# Altium footprint library 3S Battery PCBLib.PcbLib: 10 footprints
Each footprint in its own frame and in the unit in brackets; x right, y up, seen from the top. Pads: shape width x height; smd on the part's side, far side on the other; paste and mask are expansions set on the pad; w line width, h text height; cw(c..) or ccw(c..) is an arc to the next point about the centre after c.
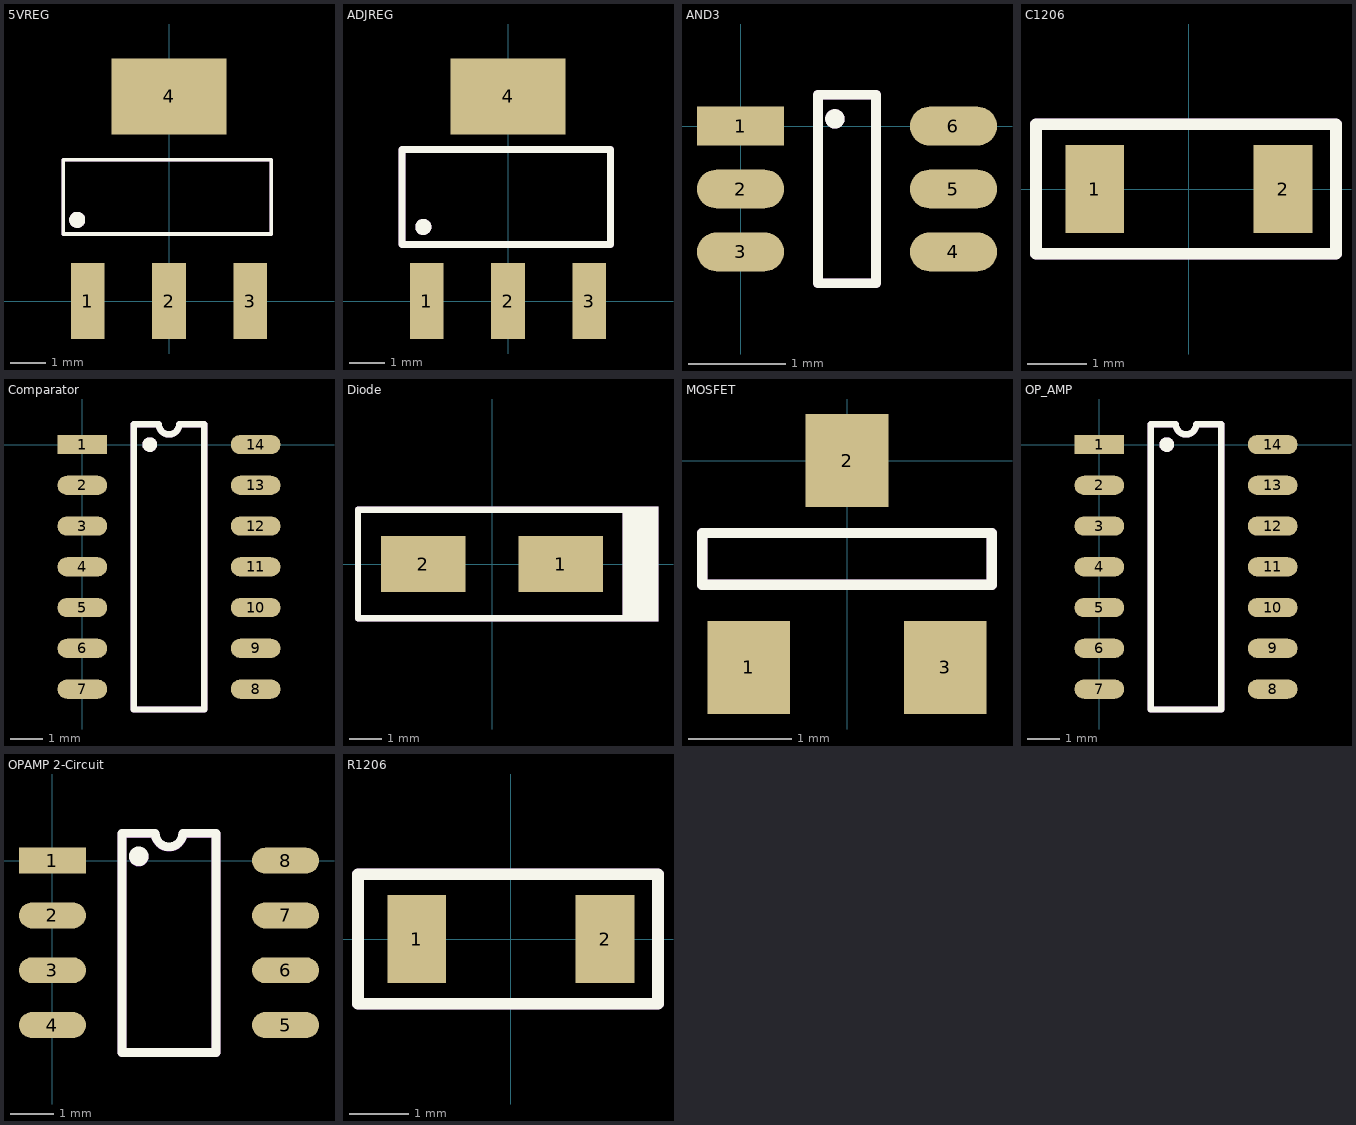
[diagram p0: the footprints below, top view; thin cyan lines are the x and y axes]

## 5VREG [mm]
pads (4):
  rect 0.95x2.15 smd: 1(-2.3,0) 2(0,0) 3(2.3,0)
  rect 3.25x2.15 smd: 4(0,5.8)
Top Overlay:
  circle w0.254: c-2.6,2.3 r0.1
  lines w0.1: -3,1.9 -3,4 2.9,4 2.9,1.9 -3,1.9
Mechanical 29:
  circle w0.254: c-2.6,2.3 r0.1
  lines w0.1: -3,1.9 -3,4 2.9,4 2.9,1.9 -3,1.9
  text "'.Designator'" at 0,3.233 h0.7
3D body "DCY4_TEX.step": height 1.7, standoff 0, extent -3.353,-0.745 3.353,6.545

## ADJREG [mm]
pads (4):
  rect 0.95x2.15 smd: 1(-2.3,0) 2(0,0) 3(2.3,0)
  rect 3.25x2.15 smd: 4(0,5.8)
Top Overlay:
  circle w0.254: c-2.4,2.1 r0.1
  lines w0.2: -3,1.6 2.9,1.6 2.9,4.3 -3,4.3 -3,1.6
Mechanical 29:
  circle w0.254: c-2.4,2.1 r0.1
  lines w0.2: -3,1.6 2.9,1.6 2.9,4.3 -3,4.3 -3,1.6
  text "'.Designator'" at 0.1,3.033 h0.7
3D body "DCY4_TEX.step": height 1.7, standoff 0, extent -3.353,-0.845 3.353,6.445

## AND3 [mm]
pads (6):
  rect 0.9x0.4 smd: 1(0,0)
  oval 0.9x0.4 smd: 2(0,-0.65) 3(0,-1.3) 4(2.2,-1.3) 5(2.2,-0.65) 6(2.2,0)
Top Overlay:
  circle w0.1: c0.975,0.075 r0.05
  lines w0.1: 0.8,-1.625 1.4,-1.625 1.4,0.325 0.8,0.325 0.8,-1.625
Mechanical 29:
  circle w0.1: c0.975,0.075 r0.05
  lines w0.1: 0.8,-1.625 1.4,-1.625 1.4,0.325 0.8,0.325 0.8,-1.625
  text "'.Designator'" at 1.2,-0.317 h0.7
3D body "DCK0006A.stp": height 1, standoff 0, extent 0.05,-1.625 2.15,0.375

## C1206 [mm]
pads (2):
  rect 1x1.5 smd: 1(-1.6,0) 2(1.6,0)
Top Overlay:
  lines w0.2: -2.6,-1.1 -2.6,1.1 2.5,1.1 2.5,-1.1 -2.6,-1.1
Mechanical 29:
  lines w0.2: -2.6,-1.1 -2.6,1.1 2.5,1.1 2.5,-1.1 -2.6,-1.1
  text "'.Designator'" at 0.1,0.333 h0.7
3D body "CAPC340180_88N_KEM.step": height 0.88, standoff 0, extent -1.7,-0.9 1.7,0.9

## Comparator [mm]
pads (14):
  rect 1.55x0.6 smd: 1(0,0)
  oval 1.55x0.6 smd: 2(0,-1.27) 3(0,-2.54) 4(0,-3.81) 5(0,-5.08) 6(0,-6.35) 7(0,-7.62) 8(5.4,-7.62) 9(5.4,-6.35) 10(5.4,-5.08) 11(5.4,-3.81) 12(5.4,-2.54) 13(5.4,-1.27) 14(5.4,0)
Top Overlay:
  circle w0.254: c2.1,0 r0.1
  lines w0.2: 1.6,-8.255 3.8,-8.255 3.8,0.635 3.017,0.635 cw(c2.7,0.635) 2.382,0.635 1.6,0.635 1.6,-8.255
Mechanical 29:
  circle w0.254: c2.1,0 r0.1
  lines w0.2: 1.6,-8.255 3.8,-8.255 3.8,0.635 3.017,0.635 cw(c2.7,0.635) 2.382,0.635 1.6,0.635 1.6,-8.255
  text "'.Designator'" at 3,-0.467 h0.7
3D body "D14.step": height 1.76, standoff 0, extent -0.399,-8.169 5.799,0.569

## Diode [mm]
pads (2):
  rect 2.65x1.75 smd: 1(2.15,0) 2(-2.15,0)
Top Overlay:
  region: 4.2,1.7
  region: 4.1,1.8 5.2,1.8 5.2,-1.8 4.1,-1.8
  lines w0.2: -4.2,-1.7 4.2,-1.7 4.2,1.7 -4.2,1.7 -4.2,-1.7
Mechanical 29:
  region: 4.2,1.7
  region: 4.1,1.8 5.2,1.8 5.2,-1.8 4.1,-1.8
  lines w0.2: -4.2,-1.7 4.2,-1.7 4.2,1.7 -4.2,1.7 -4.2,-1.7
  text "'.Designator'" at 0.1,0.333 h0.7
3D body "DIODE_DO214AC.step": height 2.34, standoff 0, extent -2.642,-1.397 2.642,1.397

## MOSFET [mm]
pads (3):
  rect 0.8x0.9 smd: 1(-0.95,-2) 2(0,0) 3(0.95,-2)
Top Overlay:
  lines w0.1: -1.4,-1.2 -1.4,-0.7 1.4,-0.7 1.4,-1.2 -1.4,-1.2
Mechanical 29:
  lines w0.1: -1.4,-1.2 -1.4,-0.7 1.4,-0.7 1.4,-1.2 -1.4,-1.2
  text "'.Designator'" at 0,-1.567 h0.7
3D body "SOT-23_2P9X1P3_DIO.step": height 1.09, standoff 0, extent -1.448,-2.245 1.448,0.245

## OP_AMP [mm]
pads (14):
  rect 1.55x0.6 smd: 1(0,0)
  oval 1.55x0.6 smd: 2(0,-1.27) 3(0,-2.54) 4(0,-3.81) 5(0,-5.08) 6(0,-6.35) 7(0,-7.62) 8(5.4,-7.62) 9(5.4,-6.35) 10(5.4,-5.08) 11(5.4,-3.81) 12(5.4,-2.54) 13(5.4,-1.27) 14(5.4,0)
Top Overlay:
  circle w0.254: c2.1,0 r0.1
  lines w0.2: 1.6,-8.255 1.6,0.635 2.382,0.635 ccw(c2.7,0.635) 3.017,0.635 3.8,0.635 3.8,-8.255 1.6,-8.255
Mechanical 29:
  circle w0.254: c2.1,0 r0.1
  lines w0.2: 1.6,-8.255 1.6,0.635 2.382,0.635 ccw(c2.7,0.635) 3.017,0.635 3.8,0.635 3.8,-8.255 1.6,-8.255
  text "'.Designator'" at 3,-0.467 h0.7
3D body "M14A_TEX.step": height 1.76, standoff 0, extent -0.399,-8.169 5.799,0.569

## OPAMP 2-Circuit [mm]
pads (8):
  rect 1.55x0.6 smd: 1(0,0)
  oval 1.55x0.6 smd: 2(0,-1.27) 3(0,-2.54) 4(0,-3.81) 5(5.4,-3.81) 6(5.4,-2.54) 7(5.4,-1.27) 8(5.4,0)
Top Overlay:
  circle w0.254: c2,0.1 r0.1
  lines w0.2: 1.61,-4.445 1.61,0.635 2.382,0.635 ccw(c2.7,0.635) 3.017,0.635 3.79,0.635 3.79,-4.445 1.61,-4.445
Mechanical 29:
  circle w0.254: c2,0.09 r0.1
  lines w0.2: 1.61,-4.455 1.61,0.625 2.382,0.625 ccw(c2.7,0.625) 3.017,0.625 3.79,0.625 3.79,-4.455 1.61,-4.455
  text "'.Designator'" at 2.925,-1.317 h0.7
3D body "M08A_TEX.step": height 1.76, standoff 0, extent -0.399,-4.402 5.799,0.602

## R1206 [mm]
pads (2):
  rect 1x1.5 smd: 1(-1.6,0) 2(1.6,0)
Top Overlay:
  lines w0.2: -2.6,-1.1 -2.6,1.1 2.5,1.1 2.5,-1.1 -2.6,-1.1
Mechanical 29:
  lines w0.2: -2.6,-1.1 -2.6,1.1 2.5,1.1 2.5,-1.1 -2.6,-1.1
  text "'.Designator'" at 0.1,0.333 h0.7
3D body "RC1206N.step": height 0.71, standoff 0, extent -1.6,-0.8 1.6,0.8